# Altium schematic symbol library BQ76920.Schlib: 1 symbol
Pins are listed as number, name and electrical type; pins without a type are passive.

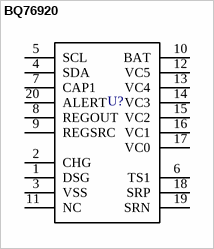
[diagram p0: symbol BQ76920]

## BQ76920
designator U?  (value not drawn)
pins: 1 DSG, 2 CHG, 3 VSS, 4 SDA, 5 SCL, 6 TS1, 7 CAP1, 8 REGOUT, 9 REGSRC, 10 BAT, 11 NC, 12 VC5, 13 VC4, 14 VC3, 15 VC2, 16 VC1, 17 VC0, 18 SRP, 19 SRN, 20 ALERT